# Altium footprint library PcbLib1.PcbLib: 6 footprints
Each footprint in its own frame and in the unit in brackets; x right, y up, seen from the top. Pads: shape width x height; smd on the part's side, far side on the other; paste and mask are expansions set on the pad; w line width, h text height; cw(c..) or ccw(c..) is an arc to the next point about the centre after c.
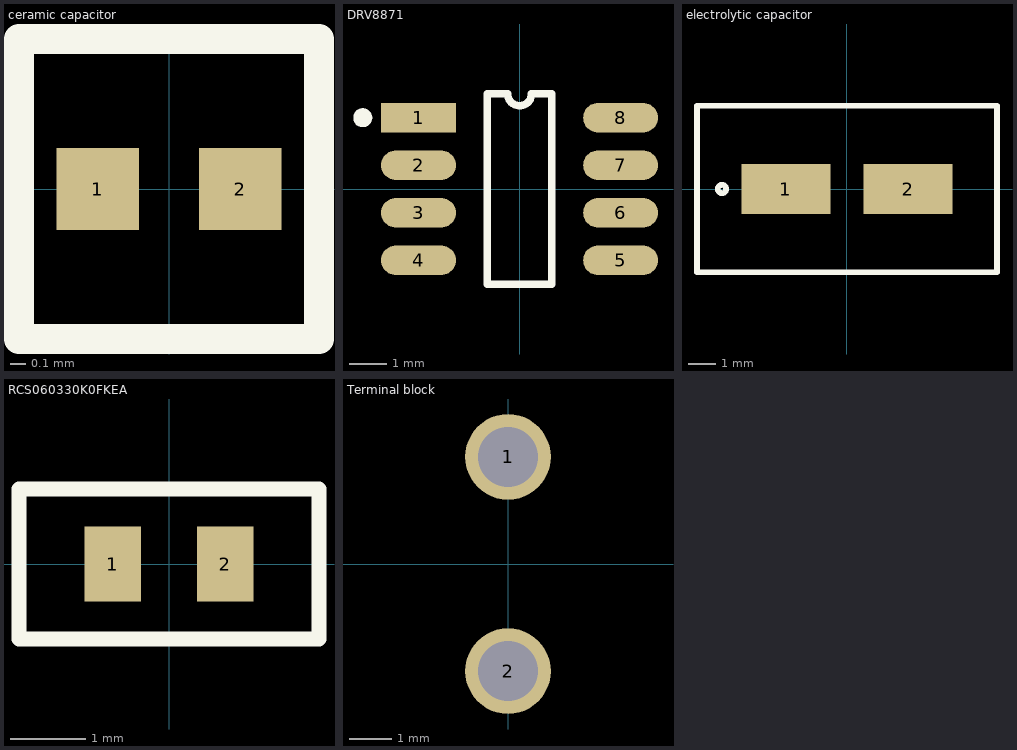
[diagram p0: the footprints below, top view; thin cyan lines are the x and y axes]

## ceramic capacitor [mm]
pads (2):
  rect 0.55x0.55 smd: 1(-0.475,0) 2(0.475,0)
Top Overlay:
  lines w0.2: -1,-1 1,-1 1,1 -1,1 -1,-1
3D body "CL05B104KP5NNNC.STEP": height 0.55, standoff 0, extent -0.5,-0.25 0.5,0.25

## DRV8871 [mm]
pads (8):
  rect 2x0.8 smd: 1(-2.7,1.905)
  oval 2x0.8 smd: 2(-2.7,0.635) 3(-2.7,-0.635) 4(-2.7,-1.905) 5(2.7,-1.905) 6(2.7,-0.635) 7(2.7,0.635) 8(2.7,1.905)
Top Overlay:
  circle w0.254: c-4.191,1.905 r0.127
  lines w0.2: -0.865,-2.54 -0.865,2.54 -0.318,2.54 ccw(c0,2.54) 0.318,2.54 0.865,2.54 0.865,-2.54 -0.865,-2.54
3D body "DRV8871DDAR.step": height 1.7, standoff 0, extent -3,-2.45 3,2.45

## electrolytic capacitor [mm]
pads (2):
  rect 3.2x1.8 smd: 1(-2.2,0) 2(2.2,0)
Top Overlay:
  circle w0.2: c-4.5,0 r0.15
  lines w0.2: -5.4,-3 -5.4,0 -5.4,3 5.4,3 5.4,-3 -5.4,-3
3D body "Download_STP_86508xx4200x+%28rev1%29.stp": height 5.35, standoff -0.15, extent -3,-2.65 3,2.65

## PCBComponent_1 [mm]

## RCS060330K0FKEA [mm]
pads (2):
  rect 0.75x1 smd: 1(-0.75,0) 2(0.75,0)
Top Overlay:
  lines w0.2: -2,-1 -2,1 2,1 2,-1 -2,-1
3D body "RCS060330K0FKEA.STEP": height 0.55, standoff 0, extent -0.775,-0.425 0.775,0.425

## Terminal block [mm]
pads (2):
  round 2 hole 1.4: 1(0,2.5) 2(0,-2.5)
3D body "282836-2--3DModel-STEP-269445.STEP": height 10, standoff -3.5, extent -4.1,-5.6 4.1,5